# Altium footprint library 光控开关电路设计.PcbLib: 13 footprints
Each footprint in its own frame and in the unit in brackets; x right, y up, seen from the top. Pads: shape width x height; smd on the part's side, far side on the other; paste and mask are expansions set on the pad; w line width, h text height; cw(c..) or ccw(c..) is an arc to the next point about the centre after c.
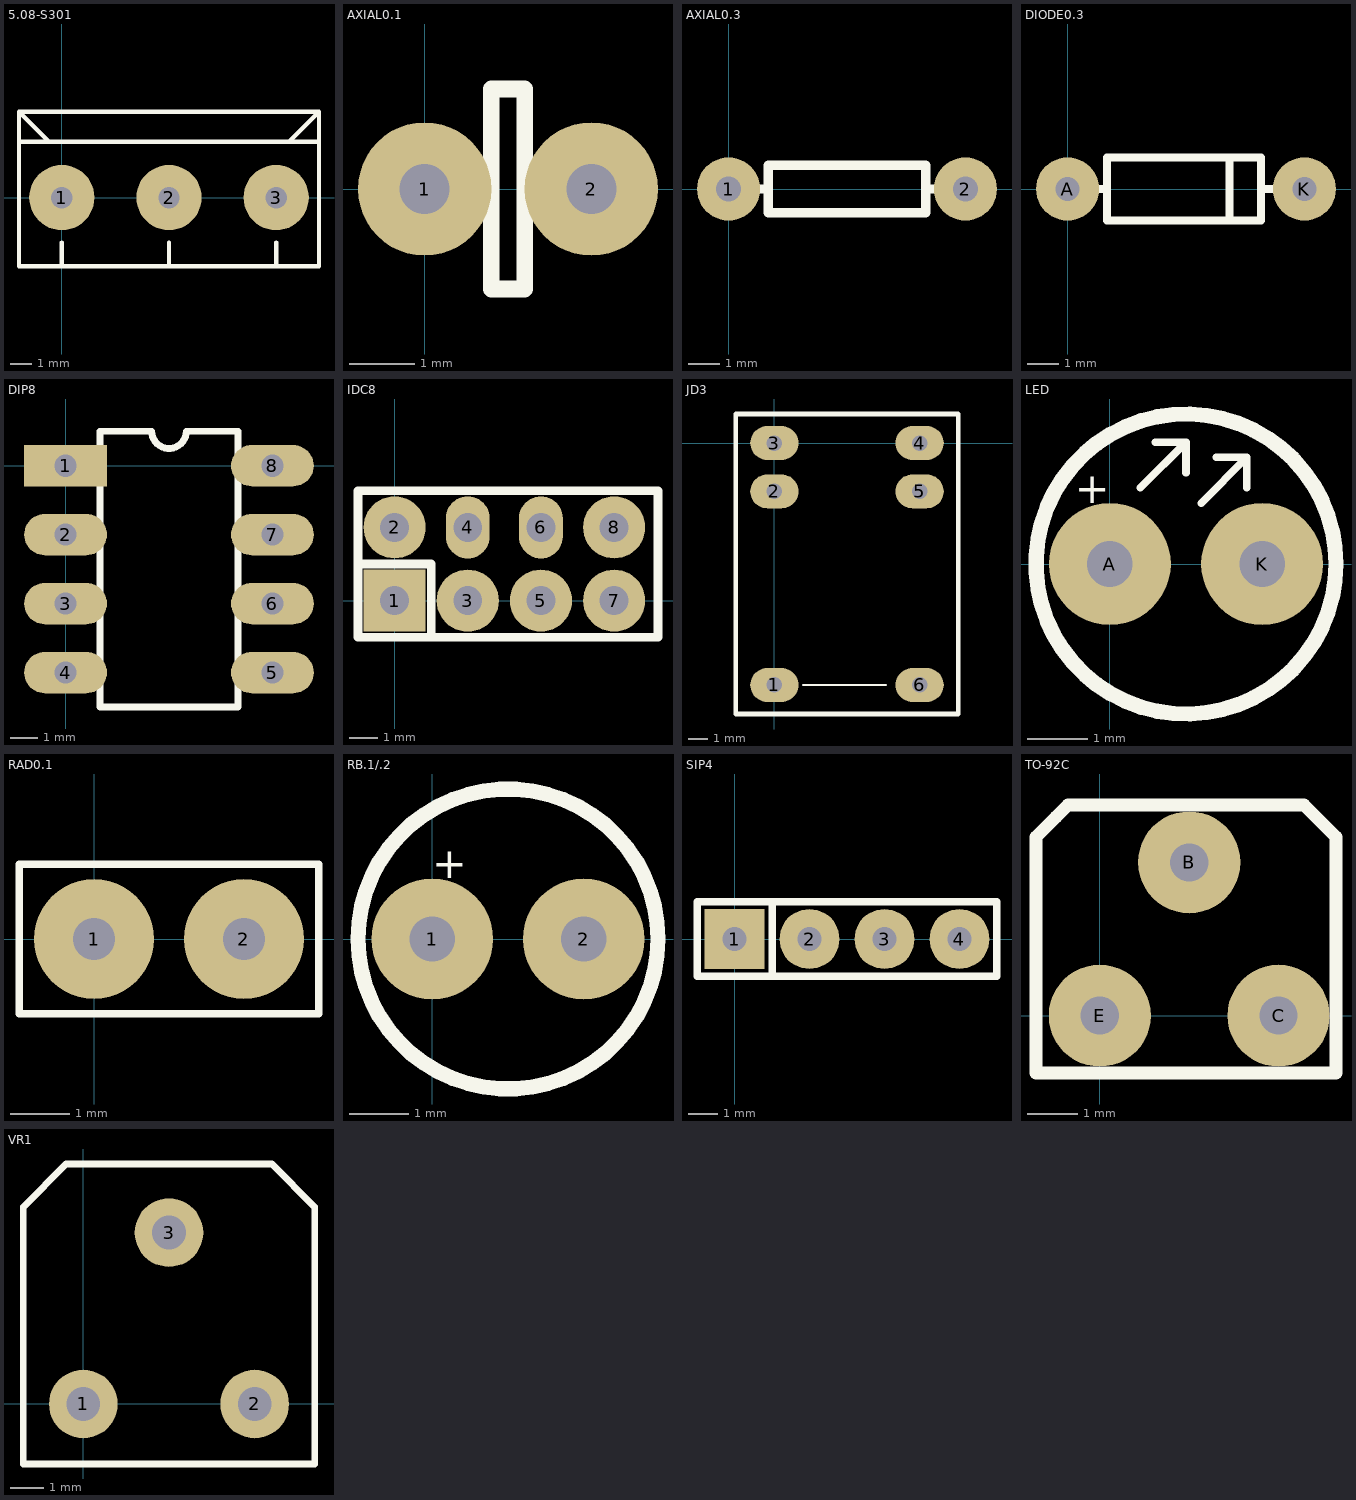
[diagram p0: the footprints below, top view; thin cyan lines are the x and y axes]

## 5.08-S301 [mil]
pads (3):
  round 120 hole 39.37: 1(0,0) 2(196.85,0) 3(393.7,0)
Top Overlay:
  lines w8: -78.74,102.36 472.44,102.36 ; -23.62,102.36 -78.74,157.48 ; 0,-82.68 0,-125.98 ; 196.85,-125.98 196.85,-82.68 ; 393.7,-125.98 393.7,-82.68 ; -78.74,157.48 -78.74,157.48 ; -78.74,157.48 472.44,157.48 ; -78.74,157.48 -78.74,-11.81 -78.74,-125.98 0,-125.98 ; 0,-125.98 472.44,-125.98 472.44,157.48 ; 417.32,102.36 417.32,102.36 ; 417.32,102.36 472.44,157.48 ; 472.44,157.48 472.44,157.48

## AXIAL0.1 [mil]
pads (2):
  round 80 hole 30: 1(0,0) 2(100,0)
Top Overlay:
  lines w10: 0,0 20,0 ; 80,0 100,0 ; 40,-60 40,0 40,60 60,60 60,0 60,-60 40,-60

## AXIAL0.3 [mil]
pads (2):
  round 80 hole 32: 1(0,0) 2(300,0)
Top Overlay:
  lines w12: 41,0 50,0 ; 259,0 250,0 ; 250,0 250,-30 50,-30 50,30 250,30 250,0

## DIODE0.3 [mil]
pads (2):
  round 80 hole 30: A(0,0) K(300,0)
Top Overlay:
  lines w10: 0,0 50,0 ; 140,-40 245,-40 245,0 245,40 150,40 50,40 50,0 ; 150,-40 50,-40 50,0 ; 205,-40 205,40 ; 250,0 300,0

## DIP8 [mil]
pads (8):
  rect 120x60 hole 32: 1(0,0)
  oval 120x60 hole 32: 2(0,-100) 3(0,-200) 4(0,-300) 5(300,-300) 6(300,-200) 7(300,-100) 8(300,0)
Top Overlay:
  lines w10: 50,-350 250,-350 250,50 175,50 cw(c150,50) 125,50 50,50 50,-350

## IDC8 [mil]
pads (8):
  rect 85x85 hole 39.37: 1(0,0)
  round 85 hole 39.37: 2(0,100) 3(100,0) 5(200,0) 7(300,0) 8(300,100)
  oval 60x85 hole 39.37: 4(100,100) 6(200,100)
Top Overlay:
  lines w12: -50,50 50,50 50,-50 ; -50,-50 -50,150 360,150 360,-50 -50,-50

## JD3 [mil]
pads (6):
  oval 100x70 hole 32: 1(0,-500) 2(0,-100) 3(0,0) 4(300,0) 5(300,-100) 6(300,-500)
Top Overlay:
  lines w5: 60,-500 230,-500 ; 140,-500 150,-500
  lines w10: -80,-560 -80,60 0,60 380,60 380,-560 -80,-560

## LED [mil]
pads (2):
  round 80 hole 30: A(0,0) K(100,0)
Top Overlay:
  circle w10: c50,0 r98.49
  lines w5: 20,50 50,80 ; 30,80 50,80 ; 50,60 50,80 ; 60,40 90,70 ; 70,70 90,70 ; 90,50 90,70
  text "+" at 0,40 h20

## RAD0.1 [mil]
pads (2):
  round 80 hole 28: 1(0,0) 2(100,0)
Top Overlay:
  lines w5: -50,-50 150,-50 150,50 -50,50 -50,-50

## RB.1/.2 [mil]
pads (2):
  round 80 hole 30: 1(0,0) 2(100,0)
Top Overlay:
  circle w10: c50,0 r99
  text "+" at 0,40 h20

## SIP4 [mil]
pads (4):
  rect 80x80 hole 32: 1(0,0)
  round 80 hole 32: 2(100,0) 3(200,0) 4(300,0)
Top Overlay:
  lines w10: 50,-50 50,50 ; -50,-50 -50,50 350,50 350,-50 -50,-50

## TO-92C [mil]
pads (3):
  round 80 hole 30: B(70,120) C(140,0) E(0,0)
Top Overlay:
  lines w10: -34.37,155.63 -50,140 ; -50,140 -50,-45 -40,-45 185,-45 185,140 160,165 -25,165 -50,140

## VR1 [mil]
pads (3):
  round 80 hole 39.37: 1(0,0) 2(200,0) 3(100,200)
Top Overlay:
  lines w8: -70,10 -70,230 -20,280 40,280 ; -70,170 -70,-70 270,-70 270,170 270,230 220,280 0,280